# EAGLE library part CS8406-CSZ (library cs8406)
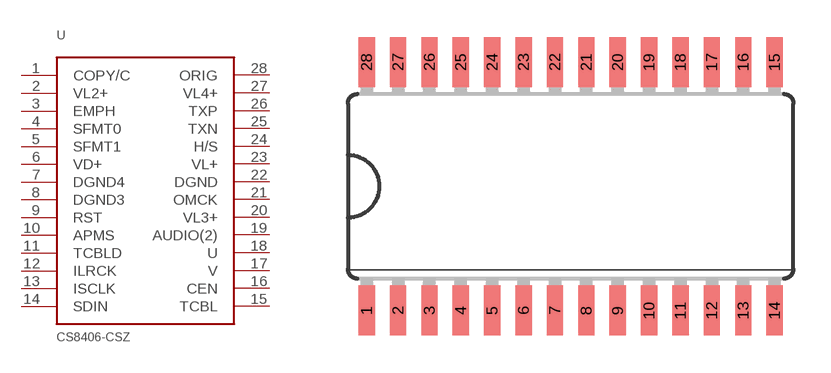
[diagram p0: symbol with the pads of SO28W; footprint SO28W]

Designator prefix -

## CS8406-CSZ  [SO28W]
1  COPY/C
2  VL2+
3  EMPH
4  SFMT0
5  SFMT1
6  VD+
7  DGND4
8  DGND3
9  RST
10  APMS
11  TCBLD
12  ILRCK
13  ISCLK
14  SDIN
15  TCBL
16  CEN
17  V
18  U
19  AUDIO(2)
20  VL3+
21  OMCK
22  DGND
23  VL+
24  H/S
25  TXN
26  TXP
27  VL4+
28  ORIG

## Footprint SO28W (pad centres in mm)
smd 0.66 x 2.032: 1 -6.985,-5.029; 2 -5.715,-5.029; 3 -4.445,-5.029; 4 -3.175,-5.029; 5 -1.905,-5.029; 6 -0.635,-5.029; 7 0.635,-5.029; 8 1.905,-5.029; 9 3.175,-5.029; 10 4.445,-5.029; 11 5.715,-5.029; 12 6.985,-5.029; 13 8.255,-5.029; 14 9.525,-5.029; 15 9.525,5.029; 16 8.255,5.029; 17 6.985,5.029; 18 5.715,5.029; 19 4.445,5.029; 20 3.175,5.029; 21 1.905,5.029; 22 0.635,5.029; 23 -0.635,5.029; 24 -1.905,5.029; 25 -3.175,5.029; 26 -4.445,5.029; 27 -5.715,5.029; 28 -6.985,5.029